# Altium footprint library SDLib.PcbLib: 10 footprints
Each footprint in its own frame and in the unit in brackets; x right, y up, seen from the top. Pads: shape width x height; smd on the part's side, far side on the other; paste and mask are expansions set on the pad; w line width, h text height; cw(c..) or ccw(c..) is an arc to the next point about the centre after c.
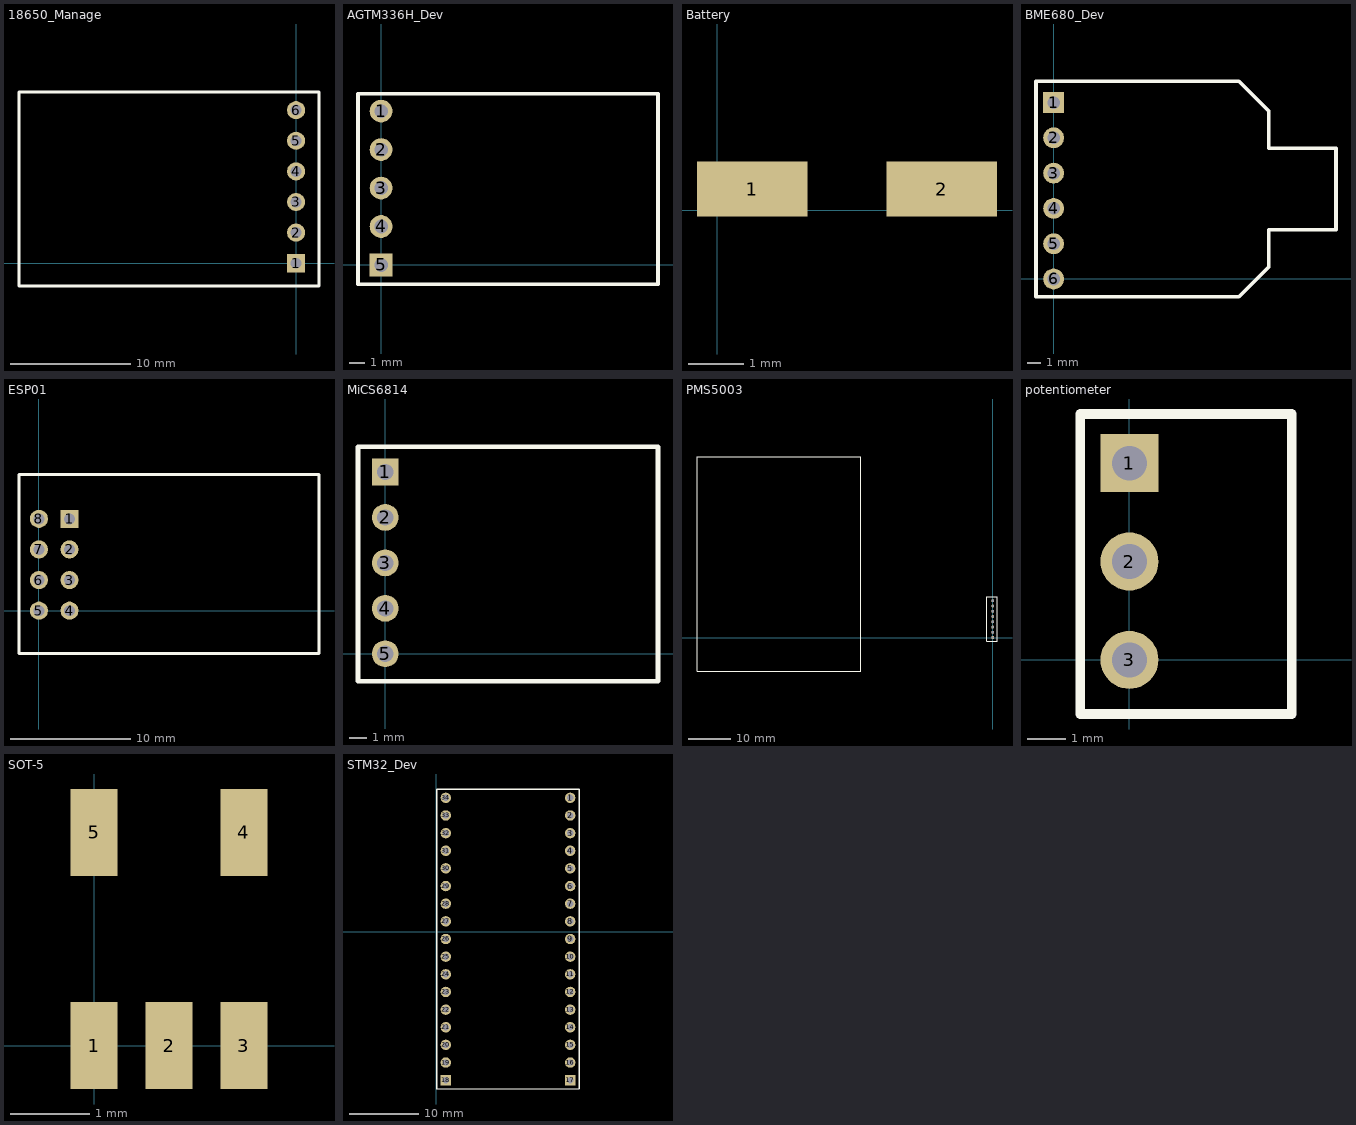
[diagram p0: the footprints below, top view; thin cyan lines are the x and y axes]

## 18650_Manage [mm]
pads (6):
  rect 1.5x1.5 hole 0.9: 1(0,0)
  round 1.5 hole 0.9: 2(0,2.54) 3(0,5.08) 4(0,7.62) 5(0,10.16) 6(0,12.7)
Top Overlay:
  lines w0.254: -22.987,-1.905 -22.987,14.222 1.905,14.222 1.905,-1.905 -22.987,-1.905

## AGTM336H_Dev [mm]
pads (5):
  round 1.5 hole 0.9: 1(0,10.16) 2(0,7.62) 3(0,5.08) 4(0,2.54)
  rect 1.5x1.5 hole 0.9: 5(0,0)
Top Overlay:
  lines w0.254: -1.524,-1.27 18.288,-1.27 18.288,11.303 -1.524,11.303 -1.524,-1.27

## Battery [mm]
pads (2):
  rect 2x1 smd: 1(0.635,0.381) 2(4.064,0.381)

## BME680_Dev [mm]
pads (6):
  rect 1.5x1.5 hole 0.9: 1(0,12.7)
  round 1.5 hole 0.9: 2(0,10.16) 3(0,7.62) 4(0,5.08) 5(0,2.54) 6(0,0)
Top Overlay:
  lines w0.254: -1.27,-1.27 13.081,-1.27 13.335,-1.27 15.494,0.889 15.494,3.556 20.32,3.556 20.32,9.398 15.494,9.398 15.494,12.065 13.335,14.224 13.208,14.224 13.081,14.224 -1.27,14.224 -1.27,-1.27

## ESP01 [mm]
pads (8):
  rect 1.5x1.5 hole 0.9: 1(2.54,7.62)
  round 1.5 hole 0.9: 2(2.54,5.08) 3(2.54,2.54) 4(2.54,0) 5(0,0) 6(0,2.54) 7(0,5.08) 8(0,7.62)
Top Overlay:
  lines w0.254: -1.651,-3.556 -1.651,11.303 23.241,11.303 23.241,-3.556 -1.651,-3.556

## MiCS6814 [mm]
pads (5):
  rect 1.5x1.5 hole 0.9: 1(0,10.16)
  round 1.5 hole 0.9: 2(0,7.62) 3(0,5.08) 4(0,2.54) 5(0,0)
Top Overlay:
  lines w0.254: -1.524,-1.524 15.24,-1.524 15.24,11.557 -1.524,11.557 -1.524,-1.524

## PMS5003 [mm] "Molex 1.25mm 8p"
pads (8):
  rect 0.7x0.7 hole 0.5: 1(0,0)
  round 0.7 hole 0.5: 2(0,1.25) 3(0,2.5) 4(0,3.75) 5(0,5) 6(0,6.25) 7(0,7.5) 8(0,8.75)
Top Overlay:
  lines w0.254: -70.369,-8.001 -31.369,-8.001 -31.369,42.999 -70.369,42.999 -70.369,-8.001 ; -1.397,-0.889 1.016,-0.889 1.016,9.652 -1.397,9.652 -1.397,-0.889

## potentiometer [mm]
pads (3):
  rect 1.5x1.5 hole 0.9: 1(0,5.08)
  round 1.5 hole 0.9: 2(0,2.54) 3(0,0)
Top Overlay:
  lines w0.254: -1.27,-1.397 4.191,-1.397 4.191,6.35 -1.27,6.35 -1.27,-1.397

## SOT-5 [mm]
pads (5):
  rect 0.6x1.1 smd: 1(0,0) 2(0.95,0) 3(1.9,0) 4(1.9,2.7) 5(0,2.7)

## STM32_Dev [mm]
pads (34):
  round 1.5 hole 0.9: 1(19.304,19.304) 2(19.304,16.764) 3(19.304,14.224) 4(19.304,11.684) 5(19.304,9.144) 6(19.304,6.604) 7(19.304,4.064) 8(19.304,1.524) 9(19.304,-1.016) 10(19.304,-3.556) 11(19.304,-6.096) 12(19.304,-8.636) 13(19.304,-11.176) 14(19.304,-13.716) 15(19.304,-16.256) 16(19.304,-18.796) 19(1.397,-18.796) 20(1.397,-16.256) 21(1.397,-13.716) 22(1.397,-11.176) 23(1.397,-8.636) 24(1.397,-6.096) 25(1.397,-3.556) 26(1.397,-1.016) 27(1.397,1.524) 28(1.397,4.064) 29(1.397,6.604) 30(1.397,9.144) 31(1.397,11.684) 32(1.397,14.224) 33(1.397,16.764) 34(1.397,19.304)
  rect 1.5x1.5 hole 0.9: 17(19.304,-21.336) 18(1.397,-21.336)
Top Overlay:
  lines w0.2: 0.127,-22.606 0.127,-20.701 0.127,20.574 20.574,20.574 20.574,-22.606 0.127,-22.606